# Altium schematic symbol library SkyPulse_UAV.SchLib: 32 symbols
Pins are listed as number, name and electrical type; pins without a type are passive.

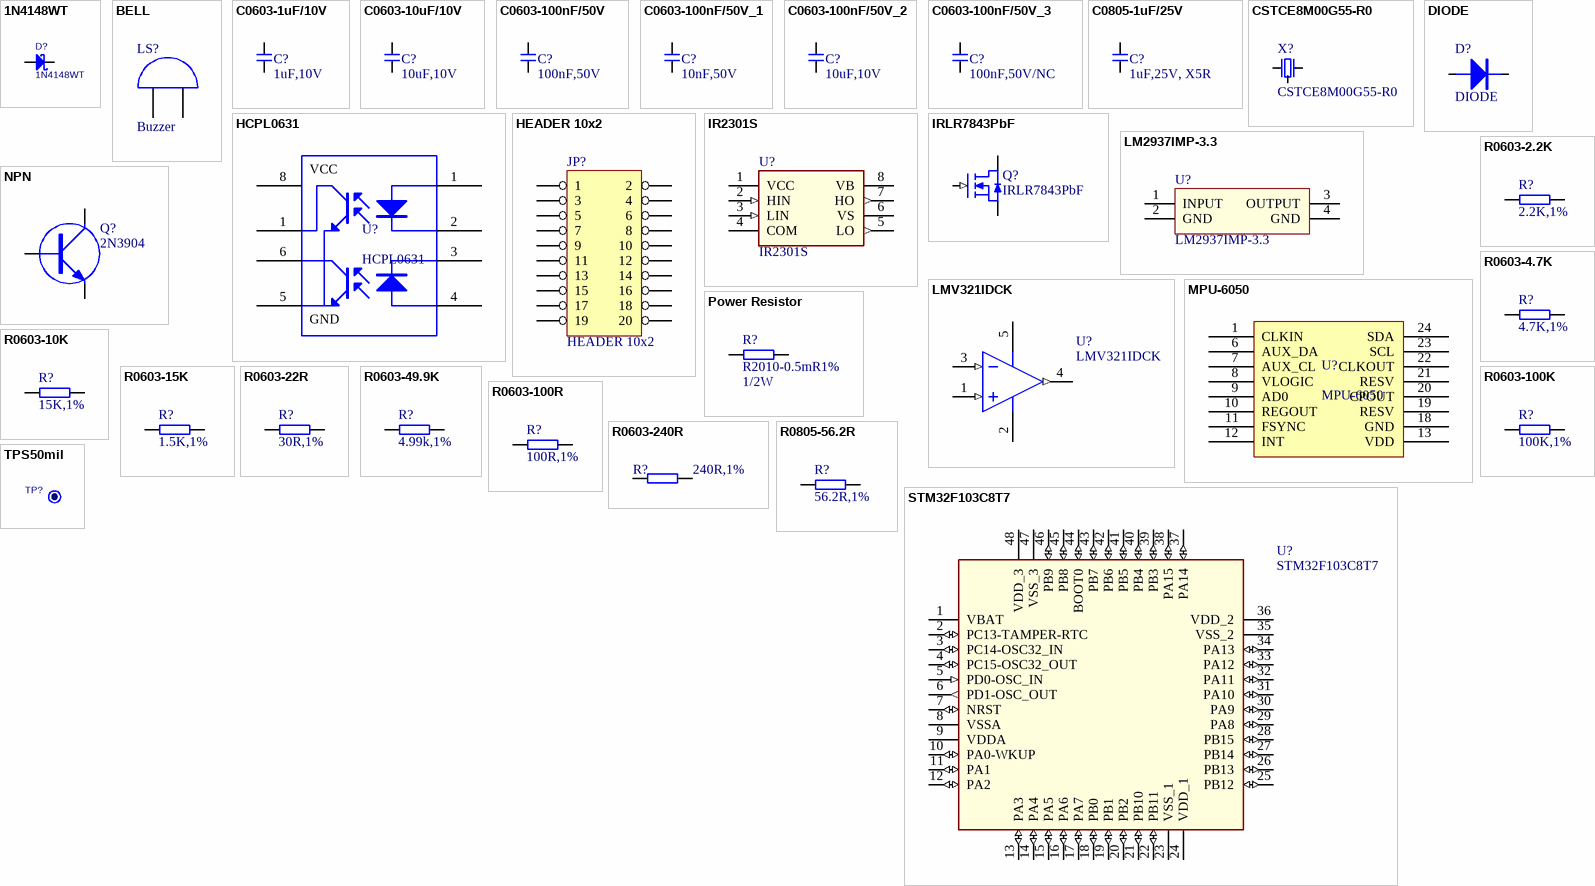
[diagram p0: symbols 1N4148WT to TPS50mil]

## 1N4148WT
designator D?
SURFACE MOUNT FAST SWITCHING DIODE; Mfr: DIODES; TOPMARK: T4
footprint DIOM1608X06N (Molded Diode, 2-Leads, Body 1.6x0.8mm, IPC Medium Density)
pins: 1 A, 2 K

## BELL
designator LS?, comment Buzzer
Buzzers
pins: 1 A, 2 B

## C0603-1uF/10V
designator C?  value 1uF,10V  (hidden comment: C0603-1uF/10V)
X5R,20%
footprint CAPC1608L (Chip Capacitor, Body 1.6x0.8mm, IPC High Density)
pins: 1, 2

## C0603-10uF/10V
designator C?  value 10uF,10V  (hidden comment: C0603-10uF/10V)
X5R,20%
footprint CAPC1608L (Chip Capacitor, Body 1.6x0.8mm, IPC High Density)
pins: 1, 2

## C0603-100nF/50V
designator C?  value 100nF,50V  (hidden comment: C0603-100nF/50V)
X7R
footprint CAPC1608L (Chip Capacitor, Body 1.6x0.8mm, IPC High Density)
pins: 1, 2

## C0603-100nF/50V_1
designator C?, comment value 10nF,50V  (hidden comment: C0603-10nF/50V)
X7R
footprint CAPC1608L (Chip Capacitor, Body 1.6x0.8mm, IPC High Density)
pins: 1, 2

## C0603-100nF/50V_2
designator C?, comment value 10uF,10V  (hidden comment: C0603-10uF/10V)
X7R
footprint CAPC1608L (Chip Capacitor, Body 1.6x0.8mm, IPC High Density)
pins: 1, 2

## C0603-100nF/50V_3
designator C?, comment value 100nF,50V/NC  (hidden comment: C0603-100nF/50V/NC)
X7R
footprint CAPC1608L (Chip Capacitor, Body 1.6x0.8mm, IPC High Density)
pins: 1, 2

## C0805-1uF/25V
designator C?  value 1uF,25V, X5R  (hidden comment: C0805-1uF/25V)
X5R,20%; Mfr P/N: C2012X5R1E105K
footprint CAPC2012L (Chip Capacitor, Body 2.0x1.3mm, IPC High Density)
pins: 1, 2

## CSTCE8M00G55-R0
designator X?
footprint CSTCE_G
pins: 1, 2 GND, 3

## DIODE
designator D?
pins: A, K

## HCPL0631
designator U?
Optical coupler
pins: 1, 1, 2, 3, 4, 5, 6, 8
text: VCC; GND

## HEADER 10x2
designator JP?
Connector 10x2 PIN
pins: 1, 2, 3, 4, 5, 6, 7, 8, 9, 10, 11, 12, 13, 14, 15, 16, 17, 18, 19, 20

## IR2301S
designator U?
High and Low Side Driver
pins: 1 VCC (power), 2 HIN (in), 3 LIN (in), 4 COM (power), 5 LO (out), 6 VS (power), 7 HO (out), 8 VB (power)

## IRLR7843PbF
designator Q?
Power MOSFET
footprint TO230P990X239-3N (D-PAK, 3-Pads, Body 6.2x6.7mm (max), IPC Medium Density)
pins: 1 G (in), 3 S (power), 4 D (power)

## LM2937IMP-3.3
designator U?
LM2937 500-mA Low Dropout Regulator
footprint SOT230P700X180-4N (SOT223, 4-Leads, Body 6.7x7.3mm (max), Pitch 2.30mm, IPC Medium Density)
pins: 1 INPUT (power), 2 GND (power), 3 OUTPUT (power), 4 GND (power)

## LMV321IDCK
designator U?
Low voltage rail to rail output operational amplifiers
footprint SOT65P210X110-5L(SC70) (SOT23, 5-Leads, Body 2.2x2.4mm (max), Pitch 0.65mm, IPC High Density)
pins: 1 IN1+ (in), 2 GND (power), 3 IN1- (in), 4 OUT1 (out), 5 V+ (power)

## MPU-6050
designator U?
MPU-6050 3-Axis Gryoscope and Accelerometer IC
pins: 1 CLKIN, 6 AUX_DA, 7 AUX_CL, 8 VLOGIC, 9 AD0, 10 REGOUT, 11 FSYNC, 12 INT, 13 VDD, 18 GND, 19 RESV, 20 CPOUT, 21 RESV, 22 CLKOUT, 23 SCL, 24 SDA

## NPN
designator Q?, comment 2N3904
NPN Triode
footprint TO-92C
footprint TO-92D
footprint TO-39A
pins: B, C, E

## Power Resistor
designator R?, comment R2010-0.5mR1%  功?: 1/2W
Vishay WSL Power type resistance; 器?: -; 制?: Vishay
footprint RC2010-5025X07N (表贴电阻, 2引脚, 长x宽为 5.0x2.5mm, 中密度)
pins: 1, 2

## R0603-2.2K
designator R?  value 2.2K,1%  (hidden comment: R0603-2.2K)
2.2K,1%; Tolerance: 1%
footprint RESC1608L (Chip Resistor, Body 1.6x0.8mm, IPC High Density)
pins: 1, 2

## R0603-4.7K
designator R?  value 4.7K,1%  (hidden comment: R0603-4.7K)
4.7K,1%; Tolerance: 1%
footprint RESC1608L (Chip Resistor, Body 1.6x0.8mm, IPC High Density)
pins: 1, 2

## R0603-10K
designator R?, comment value 15K,1%  (hidden comment: R0603-15K)
10K,1%; Tolerance: 1%
footprint RESC1608L (Chip Resistor, Body 1.6x0.8mm, IPC High Density)
pins: 1, 2

## R0603-15K
designator R?, comment value 1.5K,1%  (hidden comment: R0603-1.5K)
15K,1%; Tolerance: 1%
footprint RESC1608L (Chip Resistor, Body 1.6x0.8mm, IPC High Density)
pins: 1, 2

## R0603-22R
designator R?, comment value 30R,1%  (hidden comment: R0603-30R)
22R,1%; Tolerance: 1%
footprint RESC1608L (Chip Resistor, Body 1.6x0.8mm, IPC High Density)
pins: 1, 2

## R0603-49.9K
designator R?, comment value 4.99k,1%  (hidden comment: R0603-4.99k)
4.99k,1%; Tolerance: 1%
footprint RESC1608L (Chip Resistor, Body 1.6x0.8mm, IPC High Density)
pins: 1, 2

## R0603-100K
designator R?  value 100K,1%  (hidden comment: R0603-100K)
100K,1%; Tolerance: 1%
footprint RESC1608L (Chip Resistor, Body 1.6x0.8mm, IPC High Density)
pins: 1, 2

## R0603-100R
designator R?  value 100R,1%  (hidden comment: R0603-100R)
100R,1%; Tolerance: 1%
footprint RESC1608L (Chip Resistor, Body 1.6x0.8mm, IPC High Density)
pins: 1, 2

## R0603-240R
designator R?  value 240R,1%  (hidden comment: R0603-240R)
240R,1%; Tolerance: 1%
footprint RESC1608L (Chip Resistor, Body 1.6x0.8mm, IPC High Density)
pins: 1, 2

## R0805-56.2R
designator R?  value 56.2R,1%  (hidden comment: R0805-56.2R)
56.2R,1%; Tolerance: -
footprint RESC2012L (Chip Resistor, Body 2.0x1.3mm, IPC High Density)
pins: 1, 2

## STM32F103C8T7
designator U?
footprint TSQFP50P900X900X160-48L (TSQFP, 48-Leads, Body 9.0x9.0mm (max), Pitch 0.50mm, IPC High Density)
pins: 1 VBAT (power), 2 PC13-TAMPER-RTC (io), 3 PC14-OSC32_IN (io), 4 PC15-OSC32_OUT (io), 5 PD0-OSC_IN (in), 6 PD1-OSC_OUT (out), 7 NRST (io), 8 VSSA (power), 9 VDDA (power), 10 PA0-WKUP (io), 11 PA1 (io), 12 PA2 (io), 13 PA3 (io), 14 PA4 (io), 15 PA5 (io), 16 PA6 (io), 17 PA7 (io), 18 PB0 (io), 19 PB1 (io), 20 PB2 (io), 21 PB10 (io), 22 PB11 (io), 23 VSS_1 (power), 24 VDD_1 (power), 25 PB12 (io), 26 PB13 (io), 27 PB14 (io), 28 PB15 (io), 29 PA8 (io), 30 PA9 (io), 31 PA10 (io), 32 PA11 (io), 33 PA12 (io), 34 PA13 (io), 35 VSS_2 (power), 36 VDD_2 (power), 37 PA14 (io), 38 PA15 (io), 39 PB3 (io), 40 PB4 (io), 41 PB5 (io), 42 PB6 (io), 43 PB7 (io), 44 BOOT0 (io), 45 PB8 (io), 46 PB9 (io), 47 VSS_3 (power), 48 VDD_3 (power)

## TPS50mil
designator TP?  (value not drawn)  (no BOM)
Test Point, 12x25mil, Not Populated
footprint TPS50mil (Footprint not found)
footprint TPS25MIL
footprint TPS1.5mm
pins: 1